# EAGLE library part 1.27_MALE_16P_HEADER (library edrtech_lib)
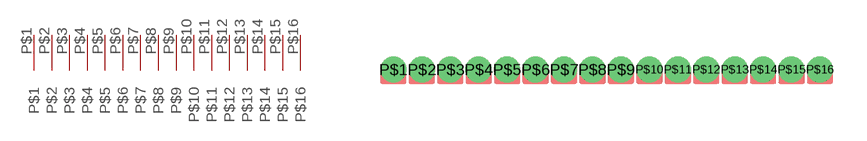
[diagram p45: symbol with the pads of 1.27_MALE_16P_HEADER; footprint 1.27_MALE_16P_HEADER]

Designator prefix -

## 1.27_MALE_16P_HEADER  [1.27_MALE_16P_HEADER]
P$1  P$1
P$2  P$2
P$3  P$3
P$4  P$4
P$5  P$5
P$6  P$6
P$7  P$7
P$8  P$8
P$9  P$9
P$10  P$10
P$11  P$11
P$12  P$12
P$13  P$13
P$14  P$14
P$15  P$15
P$16  P$16

## Footprint 1.27_MALE_16P_HEADER (pad centres in mm)
drill 0.65 pad 1.15: P$1 -9.525,0; P$2 -8.255,0; P$3 -6.985,0; P$4 -5.715,0; P$5 -4.445,0; P$6 -3.175,0; P$7 -1.905,0; P$8 -0.635,0; P$9 0.635,0; P$10 1.905,0; P$11 3.175,0; P$12 4.445,0; P$13 5.715,0; P$14 6.985,0; P$15 8.255,0; P$16 9.525,0